# Altium schematic symbol library Yuden.SchLib: 1 symbol
Pins are listed as number, name and electrical type; pins without a type are passive.

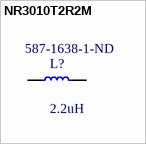
[diagram p0: symbol NR3010T2R2M]

## NR3010T2R2M
designator L?, comment Supplier Part Number 1: 587-1638-1-ND  (hidden comment: 2.2uH)
SMD Power Inductors (NR series); Supplier 1: Digi-Key; Value: 2.2uH
footprint NR3010T2R2M (SMD Power Inductors (NR series))
pins: 1, 2